# Altium schematic symbol library IC_Misc.SchLib: 1 symbol
Pins are listed as number, name and electrical type; pins without a type are passive.

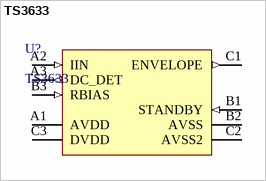
[diagram p0: symbol TS3633]

## TS3633
designator U?
Light to Digital Converter; HelpURL: https://www.triadsemi.com/download/16501/
footprint WLCSP9-0.5 (BGA, 9-Leads, Body 1,66x1,66mmx0,56mm, Pitch 0,50mm)
pins: A1 AVDD (power), A2 IIN (in), A3 DC_DET (out), B1 STANDBY (in), B2 AVSS (power), B3 RBIAS (in), C1 ENVELOPE (out), C2 AVSS2 (power), C3 DVDD (power)